# EAGLE library part MMA7260* (library sensors)
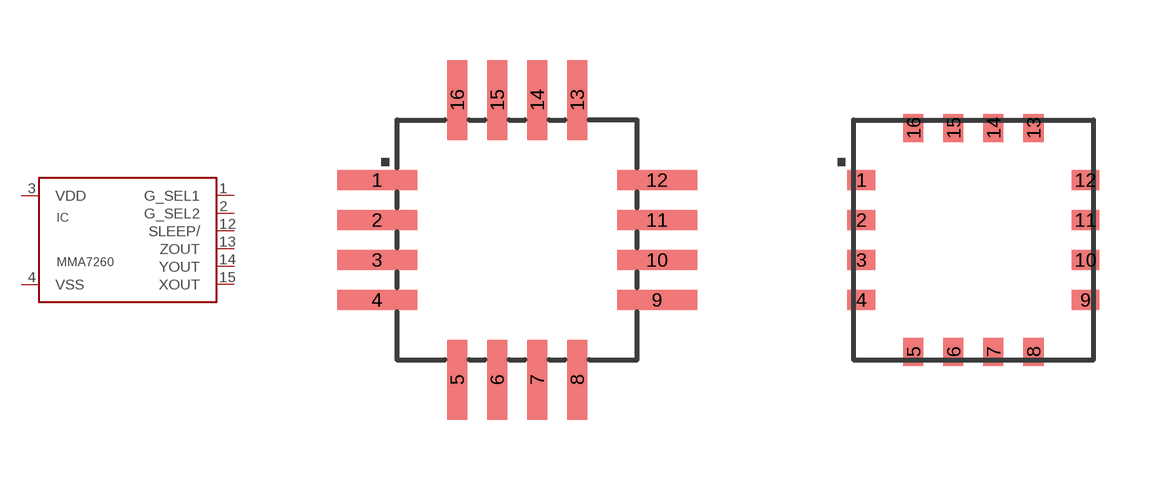
[diagram p0: symbol with the pads of QFN16LNP; footprints QFN16LNP, QFN16]

Designator prefix IC

## MMA7260QTLNP  [QFN16LNP]
1  G_SEL1  in
2  G_SEL2  in
3  VDD  pwr
4  VSS  pwr
12  SLEEP/  in
13  ZOUT  out
14  YOUT  out
15  XOUT  out

## MMA7260QT  [QFN16]
Pads as for QFN16LNP

## Footprint QFN16LNP (pad centres in mm)
smd 2 x 0.5: 1 -3.5,1.5; 2 -3.5,0.5; 3 -3.5,-0.5; 4 -3.5,-1.5; 9 3.5,-1.5; 10 3.5,-0.5; 11 3.5,0.5; 12 3.5,1.5
smd 0.5 x 2: 5 -1.5,-3.5; 6 -0.5,-3.5; 7 0.5,-3.5; 8 1.5,-3.5; 13 1.5,3.5; 14 0.5,3.5; 15 -0.5,3.5; 16 -1.5,3.5

## Footprint QFN16 (pad centres in mm)
smd 0.7 x 0.5: 1 -2.8,1.5; 2 -2.8,0.5; 3 -2.8,-0.5; 4 -2.8,-1.5; 9 2.8,-1.5; 10 2.8,-0.5; 11 2.8,0.5; 12 2.8,1.5
smd 0.5 x 0.7: 5 -1.5,-2.8; 6 -0.5,-2.8; 7 0.5,-2.8; 8 1.5,-2.8; 13 1.5,2.8; 14 0.5,2.8; 15 -0.5,2.8; 16 -1.5,2.8